# EAGLE library part IMC4 (library con-phoenix-381_l)
Invertierter Mini-Combicon 3.81mm horizontal 4-polig IMC 1,5/4-G-3,81 (ohne Gegenstecker)
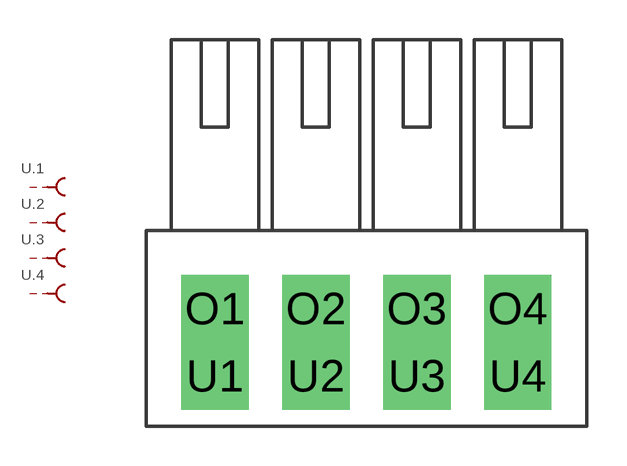
[diagram p19: symbol with the pads of IMC4; footprint IMC4]

Designator prefix -; gates .1=MCBU .2=MCBU .3=MCBU .4=MCBU

## IMC4  [IMC4]
O1  .1:S  pas
O2  .2:S  pas
O3  .3:S  pas
O4  .4:S  pas
U1  .1:SK  pas
U2  .2:SK  pas
U3  .3:SK  pas
U4  .4:SK  pas

## Footprint IMC4 (pad centres in mm)
Mini-Combicon 3.81mm horizontal 4-polig invertiert (ohne Gegenstecker)
drill 1.27 pad 2.54 square: O1 -5.715,1.27; O2 -1.905,1.27; O3 1.905,1.27; O4 5.715,1.27; U1 -5.715,-1.27; U2 -1.905,-1.27; U3 1.905,-1.27; U4 5.715,-1.27